# Altium footprint library ExternaLib.PcbLib: 9 footprints
Each footprint in its own frame and in the unit in brackets; x right, y up, seen from the top. Pads: shape width x height; smd on the part's side, far side on the other; paste and mask are expansions set on the pad; w line width, h text height; cw(c..) or ccw(c..) is an arc to the next point about the centre after c.
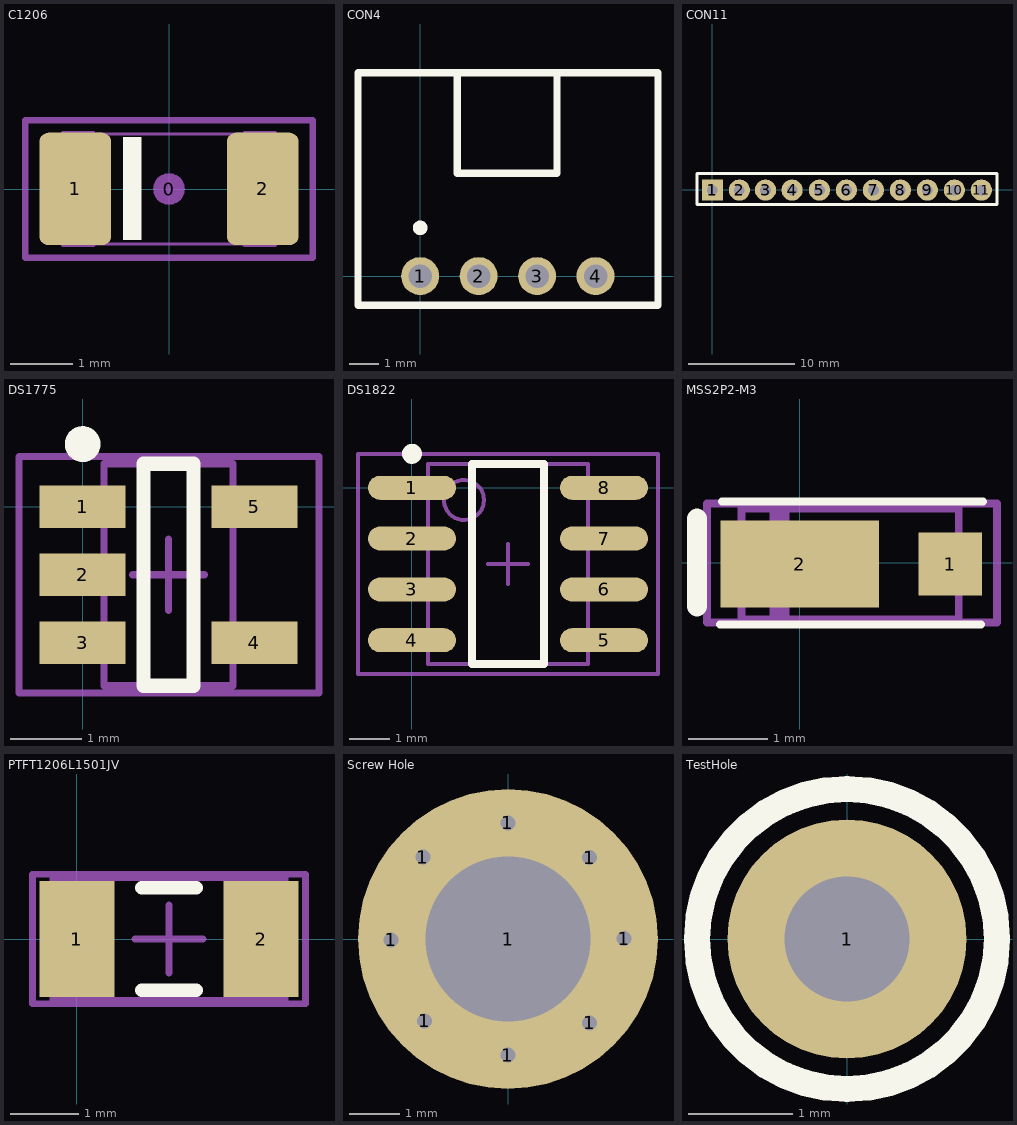
[diagram p0: the footprints below, top view; thin cyan lines are the x and y axes]

## C1206 [mm] "CAP TANT 2.2UF 20V 10% 1206"
pads (3):
  round 0.508 on Mech15: 0(-0.004,0.004)
  rrect25% 1.15x1.8 smd: 1(-1.504,0.004) 2(1.496,0.004)
Top Overlay:
  rectangle: -0.739,-0.814 -0.447,0.837
Mechanical 13:
  lines w0.05: -1.204,-0.876 1.196,-0.876 ; -1.204,0.884 1.196,0.884 ; -1.704,-0.896 -1.704,0.904 -1.204,0.904 -1.204,-0.896 -1.704,-0.896 ; 1.196,-0.896 1.196,0.904 1.696,0.904 1.696,-0.896 1.196,-0.896
Mechanical 15:
  lines w0.1: -2.304,-1.096 2.296,-1.096 2.296,1.104 -2.304,1.104 -2.304,-1.096
3D body "User Library-Tantalum Cap Case A.STEP": height 1.6, standoff 0, extent -1.604,-0.796 1.596,0.804

## CON4 [mm] "CONN HEADER PH SIDE 4POS 2MM"
pads (4):
  round 1.3 hole 0.8: 1(-0.002,-0.002) 2(1.998,-0.002) 3(3.998,-0.002) 4(5.998,-0.002)
Top Overlay:
  circle w0.25: c-0.002,1.649 r0.125
  lines w0.254: 1.269,6.931 1.269,3.518 4.678,3.518 4.678,6.937 ; -2.13,-0.999 -2.13,6.955 8.134,6.955 8.134,-0.999 -2.13,-0.999
3D body "User Library-PCB HEADER (JST SxB-PH-K-S (RIGHT ANGLE))S4B-PH-K-S.STEP": height 4.8, standoff -2, extent -1.95,-0.829 7.95,6.771

## CON11 [mm] "CONN HEADR FMALE 11POS .1\" DL AU"
pads (11):
  rect 2x2 hole 1: 1(0.005,-0.007)
  round 2 hole 1: 2(2.545,-0.007) 3(5.005,-0.007) 4(7.505,-0.007) 5(10.085,-0.007) 6(12.625,-0.007) 7(15.165,-0.007) 8(17.705,-0.007) 9(20.245,-0.007) 10(22.785,-0.007) 11(25.325,-0.007)
Top Overlay:
  lines w0.254: -1.445,-1.357 -1.445,1.543 26.797,1.543 26.797,-1.357 -1.445,-1.357
3D body "female_header_a-bl254-eg-g11d.stp": height 8.5, standoff -3.2, extent -1.395,-1.143 26.795,1.357

## DS1775 [mm] "SENSOR TEMPERATURE I2C SOT23-5"
pads (5):
  rect 1.2x0.6 smd: 1(0,0) 2(0,-0.95) 3(0,-1.9) 4(2.4,-1.9) 5(2.4,0)
Top Overlay:
  circle w0.25: c0,0.875 r0.125
  lines w0.2: 0.85,-2.5 1.55,-2.5 1.55,0.6 0.85,0.6 0.85,-2.5
Mechanical 13:
  lines w0.1: 0.3,-2.5 0.3,0.6 2.1,0.6 2.1,-2.5 0.3,-2.5
Mechanical 15:
  lines w0.1: 0.7,-0.95 1.7,-0.95 ; 1.2,-1.45 1.2,-0.45 ; -0.889,-2.6 -0.889,0.7 3.302,0.7 3.302,-2.6 -0.889,-2.6
3D body "SW3DPS-SOT-23-5-DEFAULT.STEP": height 1.05, standoff -0.05, extent -0.074,-2.459 2.426,0.541

## DS1822 [mm] "SENSOR TEMPERATURE 1-WIRE 8SOIC"
pads (8):
  oval 2.2x0.6 smd: 1(0,0) 2(0,-1.27) 3(0,-2.54) 4(0,-3.81) 5(4.8,-3.81) 6(4.8,-2.54) 7(4.8,-1.27) 8(4.8,0)
Top Overlay:
  circle w0.25: c0,0.85 r0.125
  lines w0.2: 1.5,-4.405 3.3,-4.405 3.3,0.595 1.5,0.595 1.5,-4.405
Mechanical 13:
  circle w0.1: c1.3,-0.305 r0.5
  lines w0.1: 0.4,-4.405 4.4,-4.405 4.4,0.595 0.4,0.595 0.4,-4.405
Mechanical 15:
  lines w0.1: 1.9,-1.905 2.9,-1.905 ; 2.4,-2.405 2.4,-1.405 ; -1.35,-4.655 6.15,-4.655 6.15,0.845 -1.35,0.845 -1.35,-4.655
3D body "User Library-SOIC8_4_9x3_9_1_53_p1_27.STEP": height 1.55, standoff -0.11, extent -0.6,-4.355 5.4,0.545

## MSS2P2-M3 [mm] "DIODE SCHOTTKY 20V 2A MICROSMP"
pads (2):
  rect 0.8x0.8 smd: 1(1.902,-0.013)
  rect 2x1.1 smd: 2(0.002,-0.013)
Top Overlay:
  lines w0.1: -1.002,-0.775 2.288,-0.775 ; -0.976,0.774 2.313,0.774
  lines w0.254: -1.294,-0.547 -1.294,0.558
Mechanical 13:
  lines w0.1: -0.735,-0.712 -0.735,0.685 2.008,0.685 2.008,-0.712 -0.735,-0.712
  lines w0.254: -0.252,-0.636 -0.252,0.609
Mechanical 15:
  lines w0.1: -1.167,-0.75 -1.167,0.749 2.491,0.749 2.491,-0.75 -1.167,-0.75
3D body "User Library-MicroSMP-1.STEP": height 0.66, standoff -0.02, extent -0.588,-0.649 1.912,0.651

## PTFT1206L1501JV [mm] "THERMISTOR PTC 1.5K OHM 5% 1206"
pads (2):
  rect 1.1x1.7 smd: 1(0,0) 2(2.7,0)
Top Overlay:
  lines w0.2: 0.95,-0.75 1.75,-0.75 ; 0.95,0.75 1.75,0.75
Mechanical 13:
  lines w0.1: -0.35,-0.9 -0.35,0.9 3.05,0.9 3.05,-0.9 -0.35,-0.9
Mechanical 15:
  lines w0.1: 0.85,0 1.85,0 ; 1.35,-0.5 1.35,0.5 ; -0.65,-0.95 -0.65,0.95 3.35,0.95 3.35,-0.95 -0.65,-0.95
3D body "SW3dPS-1206 SMD Resistor.STEP": height 1, standoff 0, extent -0.265,-0.778 2.935,0.822

## Screw Hole [mm] "Screw Hole inner hole 3.3mm, solder 6mm"
pads (9):
  round 0.6 hole 0.3: 1(-2.336,-0.017) 1(-1.704,1.639) 1(-1.666,-1.64) 1(-0.004,-2.323) 1(-0.003,2.32) 1(1.633,-1.679) 1(1.633,1.626) 1(2.321,0.009)
  round 6 hole 3.3: 1(0,0)

## TestHole [mm] "pad of test through hole"
pads (1):
  round 2.3 hole 1.2: 1(0,0)
Top Overlay:
  circle w0.254: c0,0 r1.441